# EAGLE library part SN75176BP (library dviid)
The SN75176B and SN65176B are differential bus transceivers RS485/RS422.
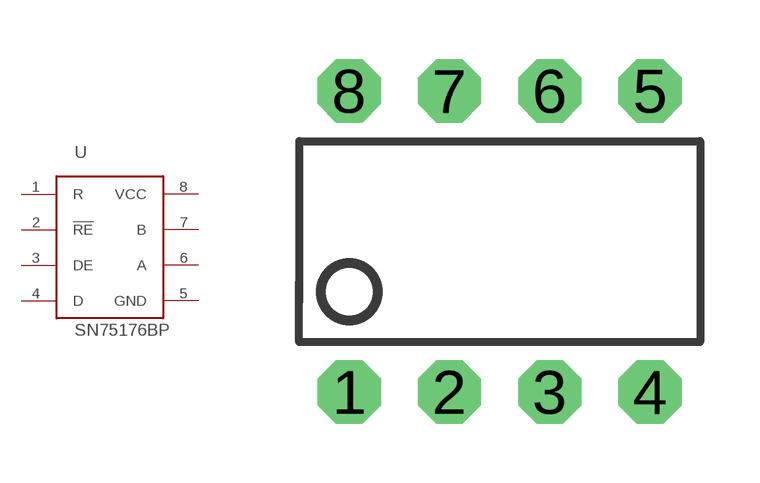
[diagram p11: symbol with the pads of DIP08; footprint DIP08]

Designator prefix -

## SN75176BP  [DIP08]
1  R  in
2  !RE  in
3  DE  in
4  D  out
5  GND  pwr
6  A
7  B
8  VCC  pwr

## Footprint DIP08 (pad centres in mm)
drill 0.813 pad 1.6 octagon: 1 -3.81,-3.81; 2 -1.27,-3.81; 3 1.27,-3.81; 4 3.81,-3.81; 5 3.81,3.81; 6 1.27,3.81; 7 -1.27,3.81; 8 -3.81,3.81